# EAGLE library part MCP42*** (library ic)
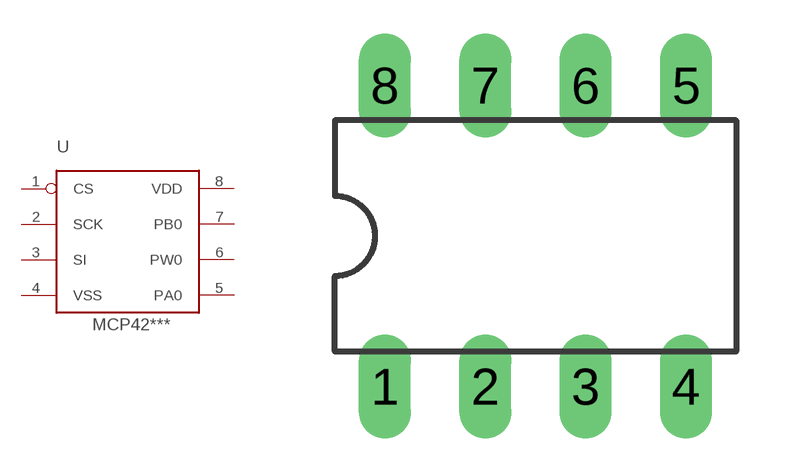
[diagram p8: symbol with the pads of 8PIN; footprint 8PIN]

Designator prefix -

## MCP42  [8PIN]
1  CS  pas
2  SCK  pas
3  SI  pas
4  VSS  pas
5  PA0  pas
6  PW0  pas
7  PB0  pas
8  VDD  pas

## Footprint 8PIN (pad centres in mm)
drill 0.813 long: 1 -3.81,-3.81; 2 -1.27,-3.81; 3 1.27,-3.81; 4 3.81,-3.81; 5 3.81,3.81; 6 1.27,3.81; 7 -1.27,3.81; 8 -3.81,3.81